# EAGLE library part XR-215P (library exar)
Monolithic PHASE-LOCKED LOOP
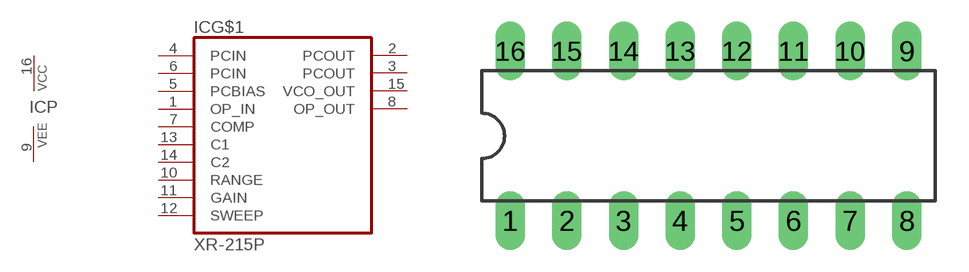
[diagram p19: symbol with the pads of DIL16; footprint DIL16]

Designator prefix IC; gates G$1=XR-215 P=PWR+/-

## XR-215P (OC_FARNELL: unknown; OC_NEWARK: unknown)  [DIL16]
1  G$1:OP_IN  in
2  G$1:PCOUT  out
3  G$1:PCOUT  out
4  G$1:PCIN  in
5  G$1:PCBIAS  in
6  G$1:PCIN  in
7  G$1:COMP  in
8  G$1:OP_OUT  out
9  P:VEE  pwr
10  G$1:RANGE  in
11  G$1:GAIN  in
12  G$1:SWEEP  in
13  G$1:C1  in
14  G$1:C2  in
15  G$1:VCO_OUT  out
16  P:VCC  pwr

## Footprint DIL16 (pad centres in mm)
Dual In Line Package
drill 0.813 long: 1 -8.89,-3.81; 2 -6.35,-3.81; 3 -3.81,-3.81; 4 -1.27,-3.81; 5 1.27,-3.81; 6 3.81,-3.81; 7 6.35,-3.81; 8 8.89,-3.81; 9 8.89,3.81; 10 6.35,3.81; 11 3.81,3.81; 12 1.27,3.81; 13 -1.27,3.81; 14 -3.81,3.81; 15 -6.35,3.81; 16 -8.89,3.81